# EAGLE library part IS25LQ080 (library C3-General)
ISSI 8MBit SPI Serial FLASH Datasheet <http://www.issi.com/WW/pdf/25LQ080.pdf>
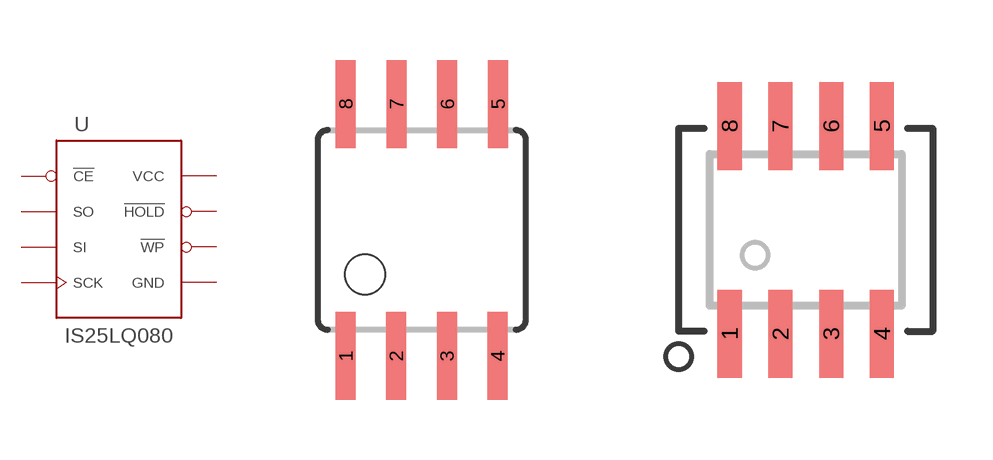
[diagram p3: symbol with the pads of EIAJ-SOIC8; footprints EIAJ-SOIC8, SOIC8]

Designator prefix U

## IS25LQ080JB  [EIAJ-SOIC8]
1  !CE  in
2  SO  out
3  !WP  in
4  GND  pas
5  SI  in
6  SCK  in
7  !HOLD  in
8  VCC  pas

## IS25LQ080JN  [SOIC8]
Pads as for EIAJ-SOIC8

## Footprint EIAJ-SOIC8 (pad centres in mm)
Wide Plastic Gull Wing Small Outline Package
smd 0.5 x 2.2: 1 -1.905,-3.154; 2 -0.645,-3.154; 3 0.625,-3.154; 4 1.895,-3.154; 5 1.905,3.154; 6 0.635,3.154; 7 -0.635,3.154; 8 -1.905,3.154

## Footprint SOIC8 (pad centres in mm)
SOIC8 Narrow Body 150mm Datasheet <http://www.skyworksinc.com/uploads/documents/200123k.pdf>
smd 0.6 x 2.2: 1 -1.905,-2.6; 2 -0.635,-2.6; 3 0.635,-2.6; 4 1.905,-2.6; 5 1.905,2.6; 6 0.635,2.6; 7 -0.635,2.6; 8 -1.905,2.6